# Altium schematic symbol library Power.SchLib: 7 symbols
Pins are listed as number, name and electrical type; pins without a type are passive.

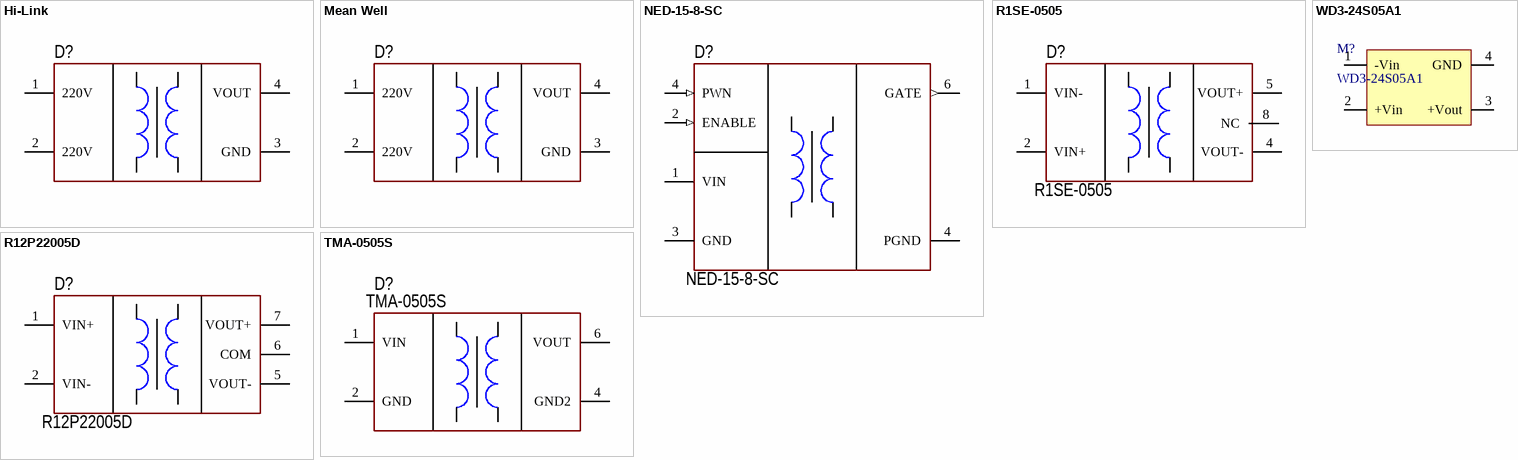
[diagram p0: symbols Hi-Link to WD3-24S05A1]

## Hi-Link
designator D?
Isolator DC; Manufacturer: China; Model: HLK-PM12; ComponentKind: 3W; HelpURL: https://ru.aliexpress.com/item/AC-DC-220V-to-12V-Buck-Step-Down-Power-Supply-Module-Converter-Intelligent-Household-Switch-HLK/32655916720.html?spm=a2g0s.13010208.99999999.272.4e5e3c00NHPqSK
footprint HLK-PM01
pins: 1 220V (power), 2 220V (power), 3 GND (power), 4 VOUT (power)

## Mean Well
designator D?
Isolator DC; Manufacturer: MEAN WELL; Model: IRM-10-12; ComponentKind: 10W; HelpURL: https://ru.mouser.com/ProductDetail/MEAN-WELL/IRM-10-12?qs=%2fha2pyFaduinEh%2fsL8Dm3dC%2f6llusOicbYSZP6avck9m518FKrUQ9Q%3d%3d
footprint IRM-10-12
footprint IRM-20-12
footprint IRM-45-15
pins: 1 220V (power), 2 220V (power), 3 GND (power), 4 VOUT (power)

## NED-15-8-SC
designator D?
Isolator DC; Manufacturer: Traco Power; Model: NED-15-8-SC; ComponentKind: 1W; HelpURL: https://www.chipdip.ru/product/tma0505s
footprint NED-15-8-SC
pins: 1 VIN (power), 2 ENABLE (in), 3 GND (power), 4 PGND (power), 4 PWN (in), 6 GATE (out)

## R1SE-0505
designator D?
Isolator DC; Manufacturer: RECOM Power; Model: R1SE-0505; ComponentKind: 1W; HelpURL: https://ru.mouser.com/ProductDetail/RECOM-Power/R1SE-0505-R?qs=%2fha2pyFaduhEzWeyu9RcrtYl%2fPhjLX%2fFHVUmin5SzckWK4wUC7NEgw%3d%3d
footprint RECOM R1SE
pins: 1 VIN- (power), 2 VIN+ (power), 4 VOUT- (power), 5 VOUT+ (power), 8 NC (power)

## R12P22005D
designator D?
SiC dc/dc isolator; Manufacturer: Recom Power; Model: R12P22005D; ComponentKind: 2W; HelpURL: https://www.digikey.com/product-detail/en/recom-power/R12P22005D/945-3056-ND/5881287
footprint R12P22005D
pins: 1 VIN+ (power), 2 VIN- (power), 5 VOUT- (power), 6 COM (power), 7 VOUT+ (power)

## TMA-0505S
designator D?
Isolator DC; Manufacturer: Traco Power; Model: TMA-0505S; ComponentKind: 1W; HelpURL: https://www.chipdip.ru/product/tma0505s
footprint TMA-0505S
pins: 1 VIN (power), 2 GND (power), 4 GND2 (power), 6 VOUT (power)

## WD3-24S05A1
designator M?
24V转5V模块; 版权归属: 源创客; BOM名称: 24V转5V模块; 学习资源: www.ooocke.com
footprint WD-24S05A1 (3W-24Vת5Vģ��)
pins: 1 -Vin, 2 +Vin, 3 +Vout, 4 GND